# EAGLE library part 93C46 (library CHIP_PRO_Dev-Kit)
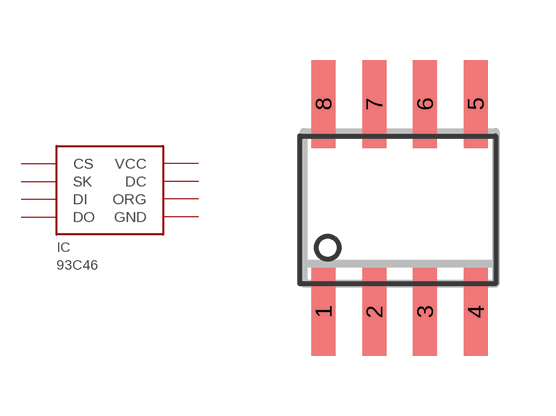
[diagram p4: symbol with the pads of SOIC8; footprint SOIC8]

Designator prefix IC

## 93C46 (93C46: 93C46)  [SOIC8]
1  CS
2  SK
3  DI
4  DO
5  GND
6  ORG
7  DC
8  VCC

## Footprint SOIC8 (pad centres in mm)
smd 0.6 x 2.2: 1 -1.905,-2.6; 2 -0.635,-2.6; 3 0.635,-2.6; 4 1.905,-2.6; 5 1.905,2.6; 6 0.635,2.6; 7 -0.635,2.6; 8 -1.905,2.6